# Altium footprint library DE-180824.PcbLib: 128 footprints (part 7 of 8)
Each footprint in its own frame and in the unit in brackets; x right, y up, seen from the top. Pads: shape width x height; smd on the part's side, far side on the other; paste and mask are expansions set on the pad; w line width, h text height; cw(c..) or ccw(c..) is an arc to the next point about the centre after c.
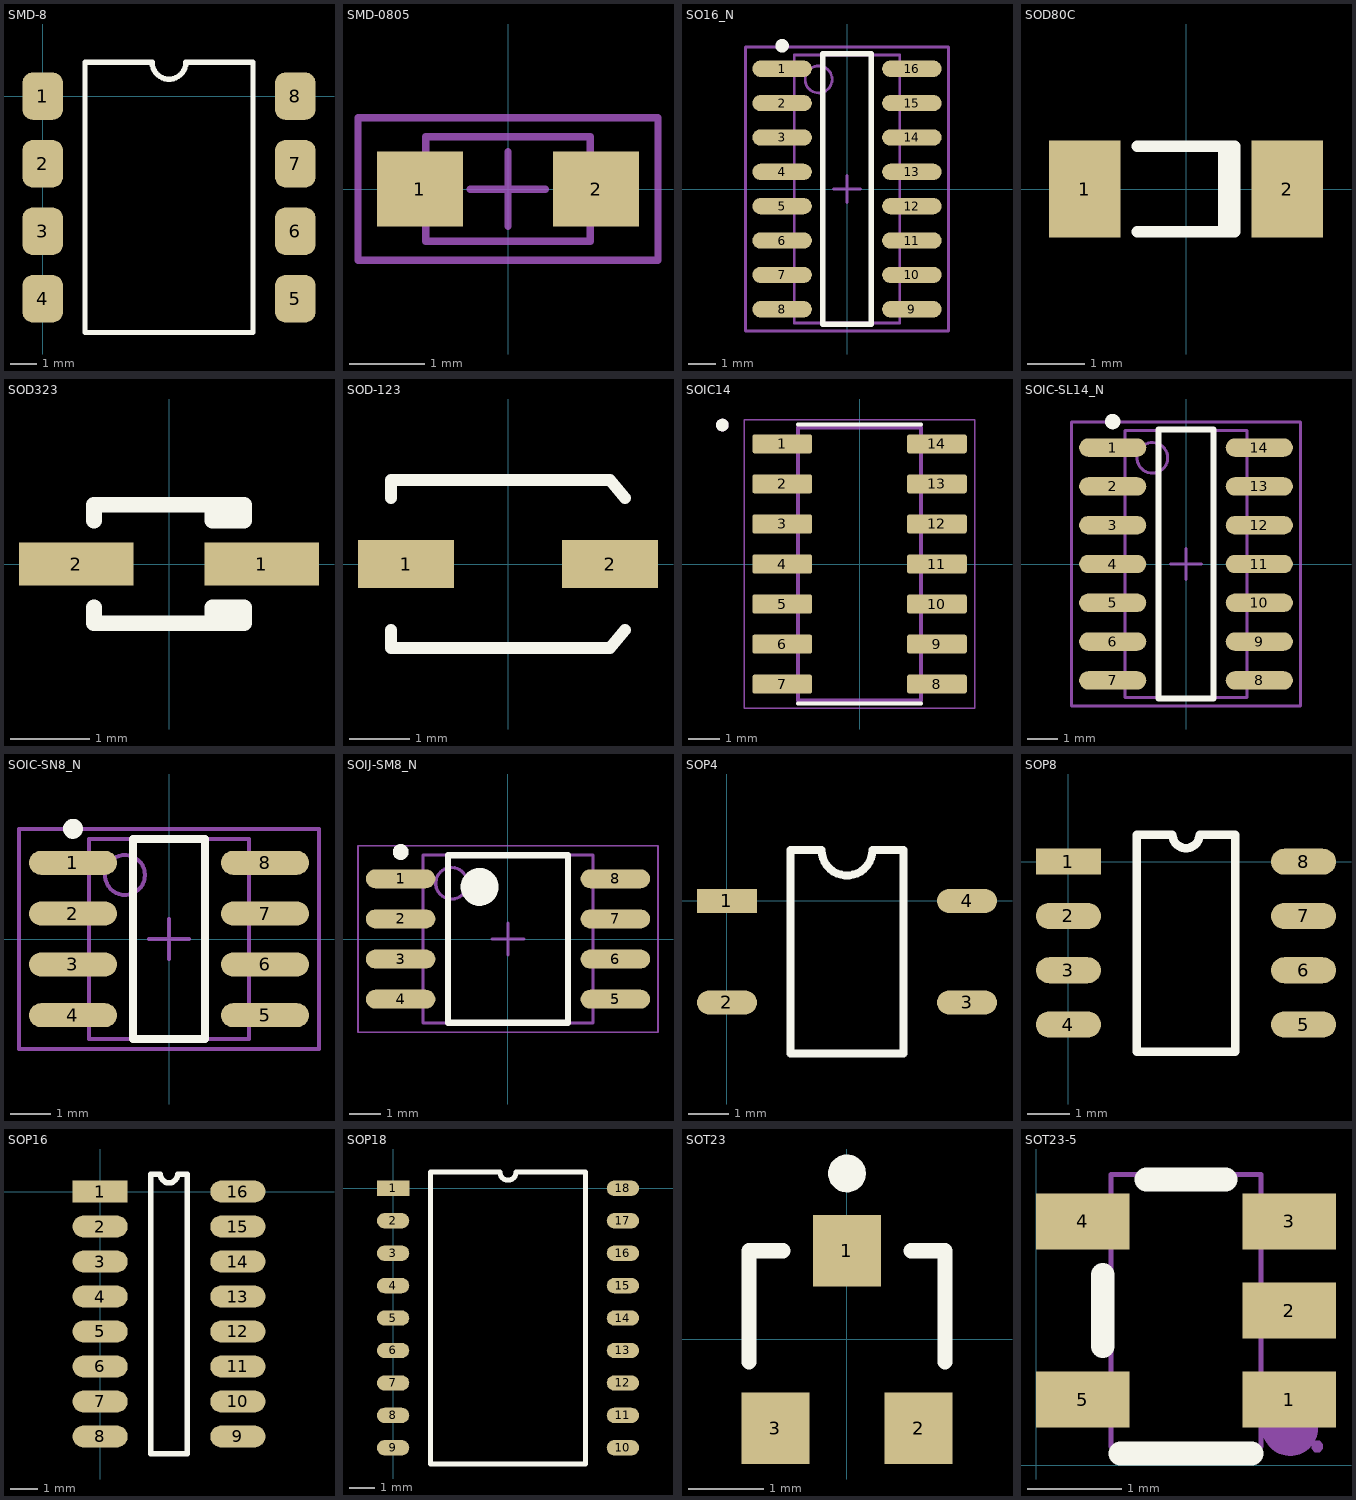
[diagram p6: the footprints below, top view; thin cyan lines are the x and y axes]

## SMD-8 [mm]
pads (8):
  rrect50% 1.52x1.78 smd: 1(0,0) 2(0,-2.54) 3(0,-5.08) 4(0,-7.62) 5(9.5,-7.62) 6(9.5,-5.08) 7(9.5,-2.54) 8(9.5,0)
Top Overlay:
  lines w0.2: 1.595,-8.89 7.905,-8.89 7.905,1.27 5.385,1.27 cw(c4.75,1.27) 4.115,1.27 1.595,1.27 1.595,-8.89
3D body: height 3.55, standoff 0.18, extent 1.27,-8.89 8.382,1.27

## SMD-0805 [mm] "Chip Inductor, 2-Leads, Body 2.0x1.2mm"
height 1.1
pads (2):
  rect 1.15x1 smd: 1(-1.175,0) 2(1.175,0)
Mechanical 13:
  lines w0.1: -1.1,-0.7 -1.1,0.7 1.1,0.7 1.1,-0.7 -1.1,-0.7
Mechanical 15:
  lines w0.1: -0.5,0 0.5,0 ; 0,-0.5 0,0.5 ; -2,-0.95 -2,0.95 2,0.95 2,-0.95 -2,-0.95
3D body "74279201.stp": height 1.1, standoff -0.01, extent -1,-0.6 1,0.6

## SO16_N [mm] "SOIC, 16-Leads, Body 9.9x3.9mm, Pitch 1.27mm, IPC Medium Density"
height 1.75
pads (16):
  oval 2.2x0.6 smd: 1(-2.4,4.445) 2(-2.4,3.175) 3(-2.4,1.905) 4(-2.4,0.635) 5(-2.4,-0.635) 6(-2.4,-1.905) 7(-2.4,-3.175) 8(-2.4,-4.445) 9(2.4,-4.445) 10(2.4,-3.175) 11(2.4,-1.905) 12(2.4,-0.635) 13(2.4,0.635) 14(2.4,1.905) 15(2.4,3.175) 16(2.4,4.445)
Top Overlay:
  circle w0.25: c-2.4,5.295 r0.125
  lines w0.2: -0.9,-5 0.9,-5 0.9,5 -0.9,5 -0.9,-5
Mechanical 13:
  circle w0.1: c-1.05,4.05 r0.5
  lines w0.1: -1.95,-4.95 1.95,-4.95 1.95,4.95 -1.95,4.95 -1.95,-4.95
Mechanical 15:
  lines w0.1: -0.5,0 0.5,0 ; 0,-0.5 0,0.5 ; -3.75,-5.25 3.75,-5.25 3.75,5.25 -3.75,5.25 -3.75,-5.25
3D body: height 1.75, standoff 0, extent -1.95,-4.95 1.95,4.95

## SOD80C [mm] "Metal Electrode Face (MELF) Diode; Body 3.5 x 1.6 mm (LxDia)"
height 1.6
pads (2):
  rect 1.25x1.7 smd: 1(-1.775,0) 2(1.775,0)
Top Overlay:
  lines w0.2: -0.85,-0.75 0.85,-0.75 0.85,0.75 -0.85,0.75 ; 0.66,-0.75 0.66,0.75

## SOD323 [mm] "SOD-323/SC-76; 2 Leads; Body 1.7 x 1.3 mm, (LxW)"
height 1.1
pads (2):
  rect 1.45x0.55 smd: 1(1.175,0) 2(-1.175,0)
Top Overlay:
  lines w0.2: -0.95,-0.55 -0.95,-0.75 0.95,-0.75 0.95,-0.55 0.55,-0.55 0.55,-0.75 ; -0.95,0.55 -0.95,0.75 0.95,0.75 0.95,0.55 0.55,0.55 0.55,0.75

## SOD-123 [mm] "SOD-123; 2 Leads; Body 2.7 x 1.6 mm, (LxW)"
height 1.35
pads (2):
  rect 1.6x0.8 smd: 1(-1.7,0) 2(1.7,0)
Top Overlay:
  lines w0.2: -1.95,-1.098 -1.95,-1.4 1.7,-1.4 1.95,-1.098 ; -1.95,1.098 -1.95,1.4 1.7,1.4 1.95,1.098

## SOIC14 [mm]
height 1.75
pads (14):
  rrect25% 1.9x0.6 smd: 1(-2.455,3.81) 2(-2.455,2.54) 3(-2.455,1.27) 4(-2.455,0) 5(-2.455,-1.27) 6(-2.455,-2.54) 7(-2.455,-3.81) 8(2.455,-3.81) 9(2.455,-2.54) 10(2.455,-1.27) 11(2.455,0) 12(2.455,1.27) 13(2.455,2.54) 14(2.455,3.81)
Top Overlay:
  circle w0.2: c-4.355,4.41 r0.1
  lines w0.127: -1.95,-4.43 1.95,-4.43 ; -1.95,4.43 1.95,4.43
Mechanical 13:
  circle w0.2: c-4.355,4.41 r0.1
  lines w0.127: -1.95,-4.325 1.95,-4.325 1.95,4.325 -1.95,4.325 -1.95,-4.325
Mechanical 15:
  lines w0.05: -3.655,-4.575 3.655,-4.575 3.655,4.575 -3.655,4.575 -3.655,-4.575
3D body "step_temp.STEP": height 1.75, standoff 0, extent -3,-4.325 3,4.325

## SOIC-SL14_N [mm] "SOIC, 14-Leads, Body 8.7x3.9mm, Pitch 1.27mm, IPC Medium Density"
height 1.75
pads (14):
  oval 2.2x0.6 smd: 1(-2.4,3.81) 2(-2.4,2.54) 3(-2.4,1.27) 4(-2.4,0) 5(-2.4,-1.27) 6(-2.4,-2.54) 7(-2.4,-3.81) 8(2.4,-3.81) 9(2.4,-2.54) 10(2.4,-1.27) 11(2.4,0) 12(2.4,1.27) 13(2.4,2.54) 14(2.4,3.81)
Top Overlay:
  circle w0.25: c-2.4,4.66 r0.125
  lines w0.2: -0.9,-4.4 0.9,-4.4 0.9,4.4 -0.9,4.4 -0.9,-4.4
Mechanical 13:
  circle w0.1: c-1.1,3.475 r0.5
  lines w0.1: -2,-4.375 2,-4.375 2,4.375 -2,4.375 -2,-4.375
Mechanical 15:
  lines w0.1: -0.5,0 0.5,0 ; 0,-0.5 0,0.5 ; -3.75,-4.65 3.75,-4.65 3.75,4.65 -3.75,4.65 -3.75,-4.65
3D body: height 1.75, standoff 0, extent -2,-4.375 2,4.375

## SOIC-SN8_N [mm] "SOIC, 8-Leads, Body 4.9x3.8mm, Pitch 1.27mm, IPC Medium Density"
height 1.75
pads (8):
  oval 2.2x0.6 smd: 1(-2.4,1.905) 2(-2.4,0.635) 3(-2.4,-0.635) 4(-2.4,-1.905) 5(2.4,-1.905) 6(2.4,-0.635) 7(2.4,0.635) 8(2.4,1.905)
Top Overlay:
  circle w0.25: c-2.4,2.755 r0.125
  lines w0.2: -0.9,-2.5 -0.9,2.5 0.9,2.5 0.9,-2.5 -0.9,-2.5
Mechanical 13:
  circle w0.1: c-1.1,1.6 r0.5
  lines w0.1: -2,-2.5 -2,2.5 2,2.5 2,-2.5 -2,-2.5
Mechanical 15:
  lines w0.1: -0.5,0 0.5,0 ; 0,-0.5 0,0.5 ; -3.75,-2.75 -3.75,2.75 3.75,2.75 3.75,-2.75 -3.75,-2.75
3D body: height 1.75, standoff 0, extent -2,-2.5 2,2.5

## SOIJ-SM8_N [mm] "SOP, 8-Leads, Body 5.2x5.2mm, Pitch 1.27mm, IPC Medium Density"
height 2.04
pads (8):
  oval 2.2x0.6 smd: 1(-3.4,1.905) 2(-3.4,0.635) 3(-3.4,-0.635) 4(-3.4,-1.905) 5(3.4,-1.905) 6(3.4,-0.635) 7(3.4,0.635) 8(3.4,1.905)
Top Overlay:
  circle w0.25: c-3.4,2.755 r0.125
  circle w0.6: c-0.9,1.65 r0.3
  lines w0.2: -1.9,-2.65 -1.9,2.65 1.9,2.65 1.9,-2.65 -1.9,-2.65
Mechanical 13:
  circle w0.1: c-1.79,1.765 r0.5
  lines w0.1: -2.69,-2.665 -2.69,2.665 2.69,2.665 2.69,-2.665 -2.69,-2.665
Mechanical 15:
  lines w0.05: -4.75,-2.95 -4.75,2.95 4.75,2.95 4.75,-2.95 -4.75,-2.95
  lines w0.1: -0.5,0 0.5,0 ; 0,-0.5 0,0.5
3D body: height 2.04, standoff 0.05, extent -2.69,-2.665 2.69,2.665

## SOP4 [mm]
height 10
pads (4):
  rect 1.5x0.6 smd: 1(0,0)
  oval 1.5x0.6 smd: 2(0,-2.54) 3(6,-2.54) 4(6,0)
Top Overlay:
  lines w0.2: 1.585,-3.81 1.585,1.27 2.365,1.27 ccw(c3,1.27) 3.635,1.27 4.415,1.27 4.415,-3.81 1.585,-3.81

## SOP8 [mm]
pads (8):
  rect 1.52x0.61 smd: 1(0,0)
  oval 1.52x0.61 smd: 2(0,-1.27) 3(0,-2.54) 4(0,-3.81) 5(5.5,-3.81) 6(5.5,-2.54) 7(5.5,-1.27) 8(5.5,0)
Top Overlay:
  lines w0.2: 1.595,-4.445 3.905,-4.445 3.905,0.635 3.067,0.635 cw(c2.75,0.635) 2.432,0.635 1.595,0.635 1.595,-4.445

## SOP16 [mm]
pads (16):
  rect 2x0.8 smd: 1(0,0)
  oval 2x0.8 smd: 2(0,-1.27) 3(0,-2.54) 4(0,-3.81) 5(0,-5.08) 6(0,-6.35) 7(0,-7.62) 8(0,-8.89) 9(5,-8.89) 10(5,-7.62) 11(5,-6.35) 12(5,-5.08) 13(5,-3.81) 14(5,-2.54) 15(5,-1.27) 16(5,0)
Top Overlay:
  lines w0.2: 1.835,-9.525 1.835,0.635 2.183,0.635 ccw(c2.5,0.635) 2.818,0.635 3.165,0.635 3.165,-9.525 1.835,-9.525
3D body: height 1.75, standoff 0.2, extent 0.381,-9.525 4.699,0.635

## SOP18 [mm]
pads (18):
  rect 1.27x0.6 smd: 1(0,0)
  oval 1.27x0.6 smd: 2(0,-1.27) 3(0,-2.54) 4(0,-3.81) 5(0,-5.08) 6(0,-6.35) 7(0,-7.62) 8(0,-8.89) 9(0,-10.16) 10(9,-10.16) 11(9,-8.89) 12(9,-7.62) 13(9,-6.35) 14(9,-5.08) 15(9,-3.81) 16(9,-2.54) 17(9,-1.27) 18(9,0)
Top Overlay:
  lines w0.2: 1.47,-10.795 7.53,-10.795 7.53,0.635 4.817,0.635 cw(c4.5,0.635) 4.182,0.635 1.47,0.635 1.47,-10.795

## SOT23 [mm] "SOT-23; 3 Leads; Body 3.1 x 2.5 mm, inc. leads (LxW max), Alternate Lead Configuration"
height 1.1
pads (3):
  rect 0.9x0.95 smd: 1(0,1.175) 2(0.95,-1.175) 3(-0.95,-1.175)
Top Overlay:
  circle w0.25: c0,2.2 r0.125
  lines w0.2: -1.3,-0.3 -1.3,1.175 -0.85,1.175 ; 0.85,1.175 1.3,1.175 1.3,-0.3

## SOT23-5 [mm] "SMD small outline"
pads (5):
  rect 1x0.6 smd paste+0 mask+0.05: 1(2.7,0.701) 2(2.7,1.651) 3(2.7,2.601) 4(0.5,2.601) 5(0.5,0.701)
Top Overlay:
  lines w0.254: 0.711,1.27 0.711,2.032 ; 0.902,0.127 2.299,0.127 ; 1.178,3.048 2.022,3.048
Mechanical 6:
  circle w0.3: c2.71,0.401 r0.15
Mechanical 15:
  region: 3.06,0.201 3.06,0.226 3.025,0.261 2.975,0.261 2.94,0.226 2.94,0.201 2.94,0.176 2.975,0.141 3.025,0.141 3.06,0.176
  region: 0.65,0.501 0.2,0.501 0.2,0.901 0.65,0.901
  region: 0.81,0.501 0.64,0.501 0.64,0.901 0.81,0.901
  region: 0.65,2.401 0.2,2.401 0.2,2.801 0.65,2.801
  region: 0.81,2.401 0.64,2.401 0.64,2.801 0.81,2.801
  region: 3,0.501 2.55,0.501 2.55,0.901 3,0.901
  region: 2.56,0.501 2.39,0.501 2.39,0.901 2.56,0.901
  region: 3,2.401 2.55,2.401 2.55,2.801 3,2.801
  region: 2.56,2.401 2.39,2.401 2.39,2.801 2.56,2.801
  region: 3,1.451 2.55,1.451 2.55,1.851 3,1.851
  region: 2.56,1.451 2.39,1.451 2.39,1.851 2.56,1.851
  lines w0.051: 0.8,0.201 2.4,0.201 2.4,3.101 0.8,3.101 0.8,0.201